# Altium schematic symbol library SCH - LOGIC - BU4S71G2-TR.SCHLIB: 1 symbol
Pins are listed as number, name and electrical type; pins without a type are passive.

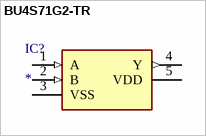
[diagram p0: symbol BU4S71G2-TR]

## BU4S71G2-TR
designator IC?
Integrated Circuit; Manufacturer_Name: ROHM Semiconductor; Manufacturer_Part_Number: BU4S71G2-TR; Description: ROHM - BU4S71G2-TR - IC; Datasheet Link: https://componentsearchengine.com/Datasheets/2/BU4S71G2-TR.pdf; Height: 1.25mm
footprint SOT95P280X125-5N
pins: 1 A (in), 2 B (in), 3 VSS (power), 4 Y (out), 5 VDD (power)